# EAGLE library part SAMTEC-SFM-110-02-L-D-DS (library greg-Connector)
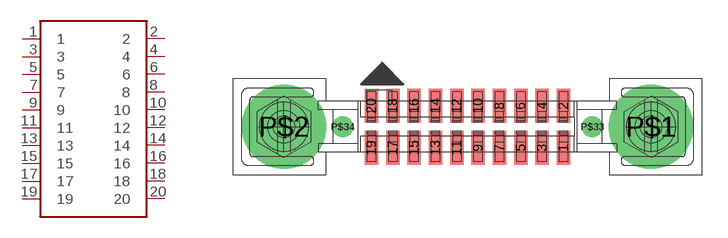
[diagram p8: symbol with the pads of SAMTEC-SFM-110-02-L-D-DS; footprint SAMTEC-SFM-110-02-L-D-DS]

Designator prefix J

## SAMTEC-SFM-110-02-L-D-DS  [SAMTEC-SFM-110-02-L-D-DS]
1  1
2  2
3  3
4  4
5  5
6  6
7  7
8  8
9  9
10  10
11  11
12  12
13  13
14  14
15  15
16  16
17  17
18  18
19  19
20  20

## Footprint SAMTEC-SFM-110-02-L-D-DS (pad centres in mm)
Samtec board to board plug, 1.27mm pitch, SMD, screw down.
smd 0.8 x 2: 1 5.715,-1.25; 2 5.715,1.25; 3 4.445,-1.25; 4 4.445,1.25; 5 3.175,-1.25; 6 3.175,1.25; 7 1.905,-1.25; 8 1.905,1.25; 9 0.635,-1.25; 10 0.635,1.25; 11 -0.635,-1.25; 12 -0.635,1.25; 13 -1.905,-1.25; 14 -1.905,1.25; 15 -3.175,-1.25; 16 -3.175,1.25; 17 -4.445,-1.25; 18 -4.445,1.25; 19 -5.715,-1.25; 20 -5.715,1.25
drill 4: P$1 10.922,0; P$2 -10.922,0
drill 0.75: P$33 7.429,0; P$34 -7.429,0